# Altium integrated library STMicroelectronics STM32W.IntLib: 20 symbols (part 2 of 2)
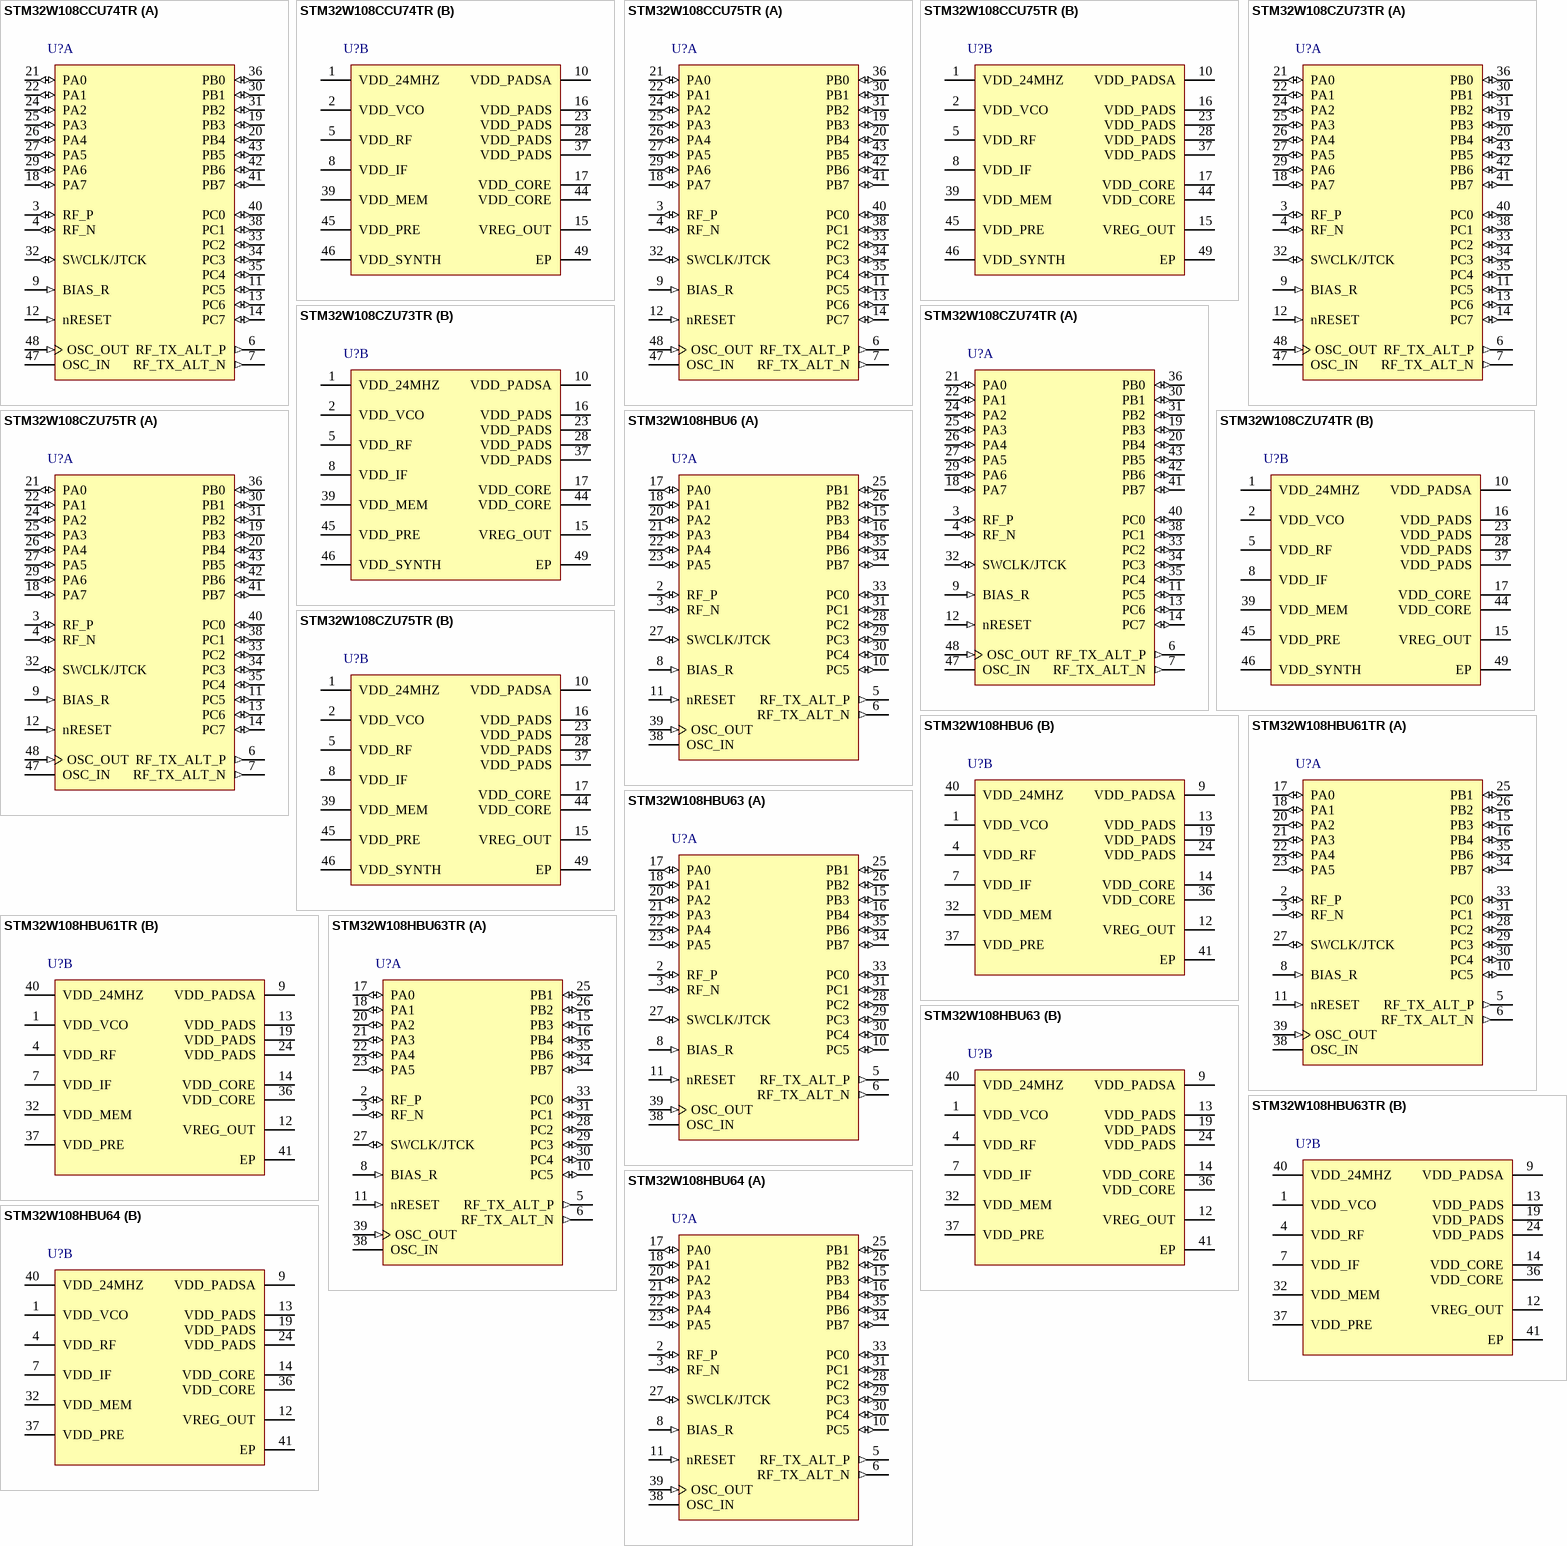
[diagram p3: symbols STM32W108CCU74TR to STM32W108HBU64]

## STM32W108CZU74TR
designator U?
ARM Cortex-M3 32-bit MCU, 192 KB Flash, 12 KB Internal RAM, 24 I/Os, 48-pin UFQFPN, -40 to 105 degC, Tape and Reel; PartNumber: STM32W108CZU74TR; A/D Converter: 1x12-bit (6 Channel); FLASH Size (Prog) (kB): 192; I/Os (High Current): 24; Internal RAM Size (kB): 12; Supply Voltage(Vcc) min (V): 2.1; DatasheetVersion: Rev. 14; PackageVersion: Rev. 1, 04/2013; PackageReference: UFQFPN48; PackageDescription: 48-Pin Ultra Thin Fine Pitch Quad Flat No-Lead, 7 x 7 x 0.6 mm Body, 0.5 mm Pitch, Exposed Pad; Supplier 1: Digi-Key; Supplier Part Number 1: 497-12997-2-ND; Supplier 2: Digi-Key; Supplier Part Number 2: 497-12997-1-ND; Supplier 3: Digi-Key; Supplier Part Number 3: 497-12997-6-ND; Supplier 4: Mouser; Supplier Part Number 4: 511-STM32W108CZU74TR; Core: ARM Cortex-M3; Operating Frequency(F) (Processor speed) (MHz): 24; Packing: Tape and Reel; Mounting Technology: Surface Mount; ComponentLink1Description: Manufacturer URL; ComponentLink1URL: http://www.st.com/web/en/home.html; ComponentLink2Description: Datasheet; ComponentLink2URL: http://www.st.com/st-web-ui/static/active/en/resource/technical/document/datasheet/CD00248316.pdf; ComponentLink3Description: Package Specification; ComponentLink3URL: http://www.st.com/st-web-ui/static/active/en/resource/technical/document/data_brief/DM00071938.pdf
footprint STM-UFQFPN48_N (QFN, 48-Leads, Body 7.1x7.1mm, Pitch 0.5mm, Thermal Pad 5.6x5.6mm, IPC Medium Density)
footprint STM-UFQFPN48_L (QFN, 48-Leads, Body 7.1x7.1mm, Pitch 0.5mm, Thermal Pad 5.6x5.6mm, IPC High Density)
footprint STM-UFQFPN48_M (QFN, 48-Leads, Body 7.1x7.1mm, Pitch 0.5mm, Thermal Pad 5.6x5.6mm, IPC Low Density)
part A pins: 3 RF_P (io) "Differential (with RF_N) receiver input/transmitter output", 4 RF_N (io) "Differential (with RF_P) receiver input/transmitter output", 6 RF_TX_ALT_P (out) "Differential (with RF_TX_ALT_N) transmitter output (optional)", 7 RF_TX_ALT_N (out) "Differential (with RF_TX_ALT_P) transmitter output (optional)", 9 BIAS_R (in) "Bias setting resistor", 11 PC5 (io) "PC5/TX_ACTIVE", 12 nRESET (in) "Active low chip reset (internal pull-up)", 13 PC6 (io) "PC6/OSC32_IN/nTX_ACTIVE", 14 PC7 (io) "PC7/OSC32_OUT/OSC32_EXT", 18 PA7 (io) "PA7/TIM1_CH4/REG_EN", 19 PB3 (io) "PB3/TIM2_CH3/UART_CTS/SC1SCLK", 20 PB4 (io) "PB4/TIM2_CH4/UART_RTS/SC1nSSEL", 21 PA0 (io) "PA0/TIM2_CH1/SC2MOSI", 22 PA1 (io) "PA1/TIM2_CH3/SC2SDA/SC2MISO", 24 PA2 (io) "PA2/TIM2_CH4/SC2SCL/SC2SCLK", 25 PA3 (io) "PA3/SC2nSSEL/TRACECLK/TIM2_CH2", 26 PA4 (io) "PA4/ADC4/PTI_EN/TRACEDATA2", 27 PA5 (io) "PA5/ADC5/PTI_DATA/nBOOTMODE/TRACEDATA3", 29 PA6 (io) "PA6/TIM1_CH3", 30 PB1 (io) "PB1/SC1MISO/SC1MOSI/SC1SDA/SC1TXD/TIM2_CH1", 31 PB2 (io) "PB2/SC1MISO/SC1MOSI/SC1SCL/SC1RXD/TIM2_CH2", 32 SWCLK/JTCK (io), 33 PC2 (io) "PC2/JTDO/SWO", 34 PC3 (io) "PC3/JTDI", 35 PC4 (io) "PC4/JTMS/SWDIO", 36 PB0 (io) "PB0/VREF/IRQA/TRACECLK/TIM1CLK/TIM2MSK", 38 PC1 (io) "PC1/ADC3/SWO/TRACEDATA0", 40 PC0 (io) "PC0/JRST/IRQD/TRACEDATA1", 41 PB7 (io) "PB7/ADC2/IRQC/TIM1_CH2", 42 PB6 (io) "PB6/ADC1/IRQB/TIM1_CH1", 43 PB5 (io) "PB5/ADC0/TIM2CLK/TIM1MSK", 47 OSC_IN "24 MHz HSE OSC or left open when using external clock input on OSC_OUT", 48 OSC_OUT (in) "24 MHz HSE OSC or external clock input"
part B pins: 1 VDD_24MHZ (power) "1.8 V high-frequency oscillator supply", 2 VDD_VCO (power) "1.8 V VCO supply", 5 VDD_RF (power) "1.8 V RF supply (LNA and PA)", 8 VDD_IF (power) "1.8 V IF supply (mixers and filters)", 10 VDD_PADSA (power) "Analog pad supply(1.8 V)", 15 VREG_OUT (power) "Regulator output (1.8 V while awake,0 V during deep sleep)", 16 VDD_PADS (power) "Pads supply (2.1-3.6 V)", 17 VDD_CORE (power) "1.25 V digital core supply decoupling", 23 VDD_PADS (power) "Pads supply(2.1-3.6 V)", 28 VDD_PADS (power) "Pads supply (2.1-3.6 V)", 37 VDD_PADS (power) "Pads supply (2.1to3.6 V).", 39 VDD_MEM (power) "1.8 V supply (Flash, RAM)", 44 VDD_CORE (power) "1.25 V digital core supply decoupling", 45 VDD_PRE (power) "1.8 V prescaler supply", 46 VDD_SYNTH (power) "1.8 V synthesizer supply", 49 EP (power) "Ground supply pad in the bottom center of the package."

## STM32W108CZU75TR
designator U?
ARM Cortex-M3 32-bit MCU, 192 KB Flash, 12 KB Internal RAM, 24 I/Os, 48-pin UFQFPN, -40 to 105 degC, Tape and Reel; PartNumber: STM32W108CZU75TR; A/D Converter: 1x12-bit (6 Channel); FLASH Size (Prog) (kB): 192; I/Os (High Current): 24; Internal RAM Size (kB): 12; Supply Voltage(Vcc) min (V): 2.1; DatasheetVersion: Rev. 14; PackageVersion: Rev. 1, 04/2013; PackageReference: UFQFPN48; PackageDescription: 48-Pin Ultra Thin Fine Pitch Quad Flat No-Lead, 7 x 7 x 0.6 mm Body, 0.5 mm Pitch, Exposed Pad; Supplier 1: Mouser; Supplier Part Number 1: 511-STM32W108CZU75TR; Core: ARM Cortex-M3; Operating Frequency(F) (Processor speed) (MHz): 24; Packing: Tape and Reel; Mounting Technology: Surface Mount; ComponentLink1Description: Manufacturer URL; ComponentLink1URL: http://www.st.com/web/en/home.html; ComponentLink2Description: Datasheet; ComponentLink2URL: http://www.st.com/st-web-ui/static/active/en/resource/technical/document/datasheet/CD00248316.pdf; ComponentLink3Description: Package Specification; ComponentLink3URL: http://www.st.com/st-web-ui/static/active/en/resource/technical/document/data_brief/DM00071938.pdf
footprint STM-UFQFPN48_N (QFN, 48-Leads, Body 7.1x7.1mm, Pitch 0.5mm, Thermal Pad 5.6x5.6mm, IPC Medium Density)
footprint STM-UFQFPN48_L (QFN, 48-Leads, Body 7.1x7.1mm, Pitch 0.5mm, Thermal Pad 5.6x5.6mm, IPC High Density)
footprint STM-UFQFPN48_M (QFN, 48-Leads, Body 7.1x7.1mm, Pitch 0.5mm, Thermal Pad 5.6x5.6mm, IPC Low Density)
part A pins: 3 RF_P (io) "Differential (with RF_N) receiver input/transmitter output", 4 RF_N (io) "Differential (with RF_P) receiver input/transmitter output", 6 RF_TX_ALT_P (out) "Differential (with RF_TX_ALT_N) transmitter output (optional)", 7 RF_TX_ALT_N (out) "Differential (with RF_TX_ALT_P) transmitter output (optional)", 9 BIAS_R (in) "Bias setting resistor", 11 PC5 (io) "PC5/TX_ACTIVE", 12 nRESET (in) "Active low chip reset (internal pull-up)", 13 PC6 (io) "PC6/OSC32_IN/nTX_ACTIVE", 14 PC7 (io) "PC7/OSC32_OUT/OSC32_EXT", 18 PA7 (io) "PA7/TIM1_CH4/REG_EN", 19 PB3 (io) "PB3/TIM2_CH3/UART_CTS/SC1SCLK", 20 PB4 (io) "PB4/TIM2_CH4/UART_RTS/SC1nSSEL", 21 PA0 (io) "PA0/TIM2_CH1/SC2MOSI", 22 PA1 (io) "PA1/TIM2_CH3/SC2SDA/SC2MISO", 24 PA2 (io) "PA2/TIM2_CH4/SC2SCL/SC2SCLK", 25 PA3 (io) "PA3/SC2nSSEL/TRACECLK/TIM2_CH2", 26 PA4 (io) "PA4/ADC4/PTI_EN/TRACEDATA2", 27 PA5 (io) "PA5/ADC5/PTI_DATA/nBOOTMODE/TRACEDATA3", 29 PA6 (io) "PA6/TIM1_CH3", 30 PB1 (io) "PB1/SC1MISO/SC1MOSI/SC1SDA/SC1TXD/TIM2_CH1", 31 PB2 (io) "PB2/SC1MISO/SC1MOSI/SC1SCL/SC1RXD/TIM2_CH2", 32 SWCLK/JTCK (io), 33 PC2 (io) "PC2/JTDO/SWO", 34 PC3 (io) "PC3/JTDI", 35 PC4 (io) "PC4/JTMS/SWDIO", 36 PB0 (io) "PB0/VREF/IRQA/TRACECLK/TIM1CLK/TIM2MSK", 38 PC1 (io) "PC1/ADC3/SWO/TRACEDATA0", 40 PC0 (io) "PC0/JRST/IRQD/TRACEDATA1", 41 PB7 (io) "PB7/ADC2/IRQC/TIM1_CH2", 42 PB6 (io) "PB6/ADC1/IRQB/TIM1_CH1", 43 PB5 (io) "PB5/ADC0/TIM2CLK/TIM1MSK", 47 OSC_IN "24 MHz HSE OSC or left open when using external clock input on OSC_OUT", 48 OSC_OUT (in) "24 MHz HSE OSC or external clock input"
part B pins: 1 VDD_24MHZ (power) "1.8 V high-frequency oscillator supply", 2 VDD_VCO (power) "1.8 V VCO supply", 5 VDD_RF (power) "1.8 V RF supply (LNA and PA)", 8 VDD_IF (power) "1.8 V IF supply (mixers and filters)", 10 VDD_PADSA (power) "Analog pad supply(1.8 V)", 15 VREG_OUT (power) "Regulator output (1.8 V while awake,0 V during deep sleep)", 16 VDD_PADS (power) "Pads supply (2.1-3.6 V)", 17 VDD_CORE (power) "1.25 V digital core supply decoupling", 23 VDD_PADS (power) "Pads supply(2.1-3.6 V)", 28 VDD_PADS (power) "Pads supply (2.1-3.6 V)", 37 VDD_PADS (power) "Pads supply (2.1to3.6 V).", 39 VDD_MEM (power) "1.8 V supply (Flash, RAM)", 44 VDD_CORE (power) "1.25 V digital core supply decoupling", 45 VDD_PRE (power) "1.8 V prescaler supply", 46 VDD_SYNTH (power) "1.8 V synthesizer supply", 49 EP (power) "Ground supply pad in the bottom center of the package."

## STM32W108HBU6
designator U?
ARM Cortex-M3 32-bit MCU, 128 KB Flash, 8 KB Internal RAM, 18 I/Os, 40-pin VFQFPN, -40 to 85 degC, Tray; PartNumber: STM32W108HBU6; A/D Converter: 1x12-bit (6 Channel); FLASH Size (Prog) (kB): 128; I/Os (High Current): 18; Internal RAM Size (kB): 8; Operating Frequency(F) (Processor speed) (MHz): 24; Supply Voltage(Vcc) min (V): 2.1; DatasheetVersion: Rev. 14; PackageVersion: Rev. 14, 09/2012; PackageReference: VFQFPN40; PackageDescription: 40-Pin Quad Flat No-Lead, 6 x 6 x 1.0 mm Body, 0.5 mm Pitch, Exposed Pad; Supplier 1: Mouser; Supplier Part Number 1: N/A; Core: ARM Cortex-M3; Packing: Tray; Mounting Technology: Surface Mount; ComponentLink1Description: Manufacturer URL; ComponentLink1URL: http://www.st.com/web/en/home.html; ComponentLink2Description: Datasheet; ComponentLink2URL: http://www.st.com/st-web-ui/static/active/en/resource/technical/document/datasheet/CD00248316.pdf; ComponentLink3Description: Package Specification; ComponentLink3URL: http://www.st.com/st-web-ui/static/active/en/resource/technical/document/datasheet/CD00248316.pdf
footprint STM-VFQFPN40_N (QFN, 40-Leads, Body 6.1x6.1mm, Pitch 0.5mm, Thermal Pad 4.6x4.6mm, IPC Medium Density)
footprint STM-VFQFPN40_L (QFN, 40-Leads, Body 6.1x6.1mm, Pitch 0.5mm, Thermal Pad 4.6x4.6mm, IPC High Density)
footprint STM-VFQFPN40_M (QFN, 40-Leads, Body 6.1x6.1mm, Pitch 0.5mm, Thermal Pad 4.6x4.6mm, IPC Low Density)
part A pins: 2 RF_P (io) "Differential (with RF_N) receiver input/transmitter output", 3 RF_N (io) "Differential (with RF_P) receiver input/transmitter output", 5 RF_TX_ALT_P (out) "Differential (with RF_TX_ALT_N) transmitter output (optional)", 6 RF_TX_ALT_N (out) "Differential (with RF_TX_ALT_P) transmitter output (optional)", 8 BIAS_R (in) "Bias setting resistor", 10 PC5 (io) "PC5/TX_ACTIVE", 11 nRESET (in) "Active low chip reset (internal pull-up)", 15 PB3 (io) "PB3/TIM2_CH3/UART_CTS/SC1SCLK", 16 PB4 (io) "PB4/TIM2_CH4/UART_RTS/SC1nSSEL", 17 PA0 (io) "PA0/TIM2_CH1/SC2MOSI", 18 PA1 (io) "PA1/TIM2_CH3/SC2SDA/SC2MISO", 20 PA2 (io) "PA2/TIM2_CH4/SC2SCL/SC2SCLK", 21 PA3 (io) "PA3/SC2nSSEL/TRACECLK/TIM2_CH2", 22 PA4 (io) "PA4/ADC4/PTI_EN/TRACEDATA2", 23 PA5 (io) "PA5/ADC5/PTI_DATA/nBOOTMODE/TRACEDATA3", 25 PB1 (io) "PB1/SC1MISO/SC1MOSI/SC1SDA/SC1TXD/TIM2_CH1", 26 PB2 (io) "PB2/SC1MISO/SC1MOSI/SC1SCL/SC1RXD/TIM2_CH2", 27 SWCLK/JTCK (io), 28 PC2 (io) "PC2/JTDO/SWO", 29 PC3 (io) "PC3/JTDI", 30 PC4 (io) "PC4/JTMS/SWDIO", 31 PC1 (io) "PC1/ADC3/SWO/TRACEDATA0", 33 PC0 (io) "PC0/JRST/IRQD/TRACEDATA1", 34 PB7 (io) "PB7/ADC2/IRQC/TIM1_CH2", 35 PB6 (io) "PB6/ADC1/IRQB/TIM1_CH1", 38 OSC_IN "24 MHz HSE OSC or left open when using external clock input on OSC_OUT", 39 OSC_OUT (in) "24 MHz HSE OSC or external clock input"
part B pins: 1 VDD_VCO (power) "1.8V VCO supply", 4 VDD_RF (power) "1.8V RF supply (LNA and PA)", 7 VDD_IF (power) "1.8V IF supply (mixers and filters)", 9 VDD_PADSA (power) "Analog pad supply (1.8V)", 12 VREG_OUT (power) "Regulator output (1.8 V while awake, 0 V during deep sleep)", 13 VDD_PADS (power) "Pads supply (2.1-3.6 V)", 14 VDD_CORE (power) "1.25 V digital core supply decoupling", 19 VDD_PADS (power) "Pads supply (2.1-3.6V)", 24 VDD_PADS (power) "Pads supply (2.1-3.6 V)", 32 VDD_MEM (power) "1.8 V supply (Flash, RAM)", 36 VDD_CORE (power) "1.25 V digital core supply decoupling", 37 VDD_PRE (power) "1.8 V prescaler supply", 40 VDD_24MHZ (power) "1.8V high-frequency oscillator supply", 41 EP (power) "Ground supply pad in the bottom center of the package."

## STM32W108HBU61TR
designator U?
ARM Cortex-M3 32-bit MCU, 128 KB Flash, 8 KB Internal RAM, 18 I/Os, 40-pin VFQFPN, -40 to 85 degC, Tape and Reel; PartNumber: STM32W108HBU61TR; A/D Converter: 1x12-bit (6 Channel); FLASH Size (Prog) (kB): 128; I/Os (High Current): 18; Internal RAM Size (kB): 8; Operating Frequency(F) (Processor speed) (MHz): 24; Supply Voltage(Vcc) min (V): 2.1; DatasheetVersion: Rev. 14; PackageVersion: Rev. 14, 09/2012; PackageReference: VFQFPN40; PackageDescription: 40-Pin Quad Flat No-Lead, 6 x 6 x 1.0 mm Body, 0.5 mm Pitch, Exposed Pad; Supplier 1: Digi-Key; Supplier Part Number 1: 497-11412-2-ND; Supplier 2: Digi-Key; Supplier Part Number 2: 497-11412-1-ND; Supplier 3: Digi-Key; Supplier Part Number 3: 497-11412-6-ND; Supplier 4: Mouser; Supplier Part Number 4: 511-STM32W108HBU61TR; Core: ARM Cortex-M3; Packing: Tape and Reel; Mounting Technology: Surface Mount; ComponentLink1Description: Manufacturer URL; ComponentLink1URL: http://www.st.com/web/en/home.html; ComponentLink2Description: Datasheet; ComponentLink2URL: http://www.st.com/st-web-ui/static/active/en/resource/technical/document/datasheet/CD00248316.pdf; ComponentLink3Description: Package Specification; ComponentLink3URL: http://www.st.com/st-web-ui/static/active/en/resource/technical/document/datasheet/CD00248316.pdf
footprint STM-VFQFPN40_N (QFN, 40-Leads, Body 6.1x6.1mm, Pitch 0.5mm, Thermal Pad 4.6x4.6mm, IPC Medium Density)
footprint STM-VFQFPN40_L (QFN, 40-Leads, Body 6.1x6.1mm, Pitch 0.5mm, Thermal Pad 4.6x4.6mm, IPC High Density)
footprint STM-VFQFPN40_M (QFN, 40-Leads, Body 6.1x6.1mm, Pitch 0.5mm, Thermal Pad 4.6x4.6mm, IPC Low Density)
part A pins: 2 RF_P (io) "Differential (with RF_N) receiver input/transmitter output", 3 RF_N (io) "Differential (with RF_P) receiver input/transmitter output", 5 RF_TX_ALT_P (out) "Differential (with RF_TX_ALT_N) transmitter output (optional)", 6 RF_TX_ALT_N (out) "Differential (with RF_TX_ALT_P) transmitter output (optional)", 8 BIAS_R (in) "Bias setting resistor", 10 PC5 (io) "PC5/TX_ACTIVE", 11 nRESET (in) "Active low chip reset (internal pull-up)", 15 PB3 (io) "PB3/TIM2_CH3/UART_CTS/SC1SCLK", 16 PB4 (io) "PB4/TIM2_CH4/UART_RTS/SC1nSSEL", 17 PA0 (io) "PA0/TIM2_CH1/SC2MOSI", 18 PA1 (io) "PA1/TIM2_CH3/SC2SDA/SC2MISO", 20 PA2 (io) "PA2/TIM2_CH4/SC2SCL/SC2SCLK", 21 PA3 (io) "PA3/SC2nSSEL/TRACECLK/TIM2_CH2", 22 PA4 (io) "PA4/ADC4/PTI_EN/TRACEDATA2", 23 PA5 (io) "PA5/ADC5/PTI_DATA/nBOOTMODE/TRACEDATA3", 25 PB1 (io) "PB1/SC1MISO/SC1MOSI/SC1SDA/SC1TXD/TIM2_CH1", 26 PB2 (io) "PB2/SC1MISO/SC1MOSI/SC1SCL/SC1RXD/TIM2_CH2", 27 SWCLK/JTCK (io), 28 PC2 (io) "PC2/JTDO/SWO", 29 PC3 (io) "PC3/JTDI", 30 PC4 (io) "PC4/JTMS/SWDIO", 31 PC1 (io) "PC1/ADC3/SWO/TRACEDATA0", 33 PC0 (io) "PC0/JRST/IRQD/TRACEDATA1", 34 PB7 (io) "PB7/ADC2/IRQC/TIM1_CH2", 35 PB6 (io) "PB6/ADC1/IRQB/TIM1_CH1", 38 OSC_IN "24 MHz HSE OSC or left open when using external clock input on OSC_OUT", 39 OSC_OUT (in) "24 MHz HSE OSC or external clock input"
part B pins: 1 VDD_VCO (power) "1.8V VCO supply", 4 VDD_RF (power) "1.8V RF supply (LNA and PA)", 7 VDD_IF (power) "1.8V IF supply (mixers and filters)", 9 VDD_PADSA (power) "Analog pad supply (1.8V)", 12 VREG_OUT (power) "Regulator output (1.8 V while awake, 0 V during deep sleep)", 13 VDD_PADS (power) "Pads supply (2.1-3.6 V)", 14 VDD_CORE (power) "1.25 V digital core supply decoupling", 19 VDD_PADS (power) "Pads supply (2.1-3.6V)", 24 VDD_PADS (power) "Pads supply (2.1-3.6 V)", 32 VDD_MEM (power) "1.8 V supply (Flash, RAM)", 36 VDD_CORE (power) "1.25 V digital core supply decoupling", 37 VDD_PRE (power) "1.8 V prescaler supply", 40 VDD_24MHZ (power) "1.8V high-frequency oscillator supply", 41 EP (power) "Ground supply pad in the bottom center of the package."

## STM32W108HBU63
designator U?
ARM Cortex-M3 32-bit MCU, 128 KB Flash, 8 KB Internal RAM, 18 I/Os, 40-pin VFQFPN, -40 to 85 degC, Tray; PartNumber: STM32W108HBU63; A/D Converter: 1x12-bit (6 Channel); FLASH Size (Prog) (kB): 128; I/Os (High Current): 18; Internal RAM Size (kB): 8; Operating Frequency(F) (Processor speed) (MHz): 24; Supply Voltage(Vcc) min (V): 2.1; DatasheetVersion: Rev. 14; PackageVersion: Rev. 14, 09/2012; PackageReference: VFQFPN40; PackageDescription: 40-Pin Quad Flat No-Lead, 6 x 6 x 1.0 mm Body, 0.5 mm Pitch, Exposed Pad; Supplier 1: Mouser; Supplier Part Number 1: N/A; Core: ARM Cortex-M3; Packing: Tray; Mounting Technology: Surface Mount; ComponentLink1Description: Manufacturer URL; ComponentLink1URL: http://www.st.com/web/en/home.html; ComponentLink2Description: Datasheet; ComponentLink2URL: http://www.st.com/st-web-ui/static/active/en/resource/technical/document/datasheet/CD00248316.pdf; ComponentLink3Description: Package Specification; ComponentLink3URL: http://www.st.com/st-web-ui/static/active/en/resource/technical/document/datasheet/CD00248316.pdf
footprint STM-VFQFPN40_N (QFN, 40-Leads, Body 6.1x6.1mm, Pitch 0.5mm, Thermal Pad 4.6x4.6mm, IPC Medium Density)
footprint STM-VFQFPN40_L (QFN, 40-Leads, Body 6.1x6.1mm, Pitch 0.5mm, Thermal Pad 4.6x4.6mm, IPC High Density)
footprint STM-VFQFPN40_M (QFN, 40-Leads, Body 6.1x6.1mm, Pitch 0.5mm, Thermal Pad 4.6x4.6mm, IPC Low Density)
part A pins: 2 RF_P (io) "Differential (with RF_N) receiver input/transmitter output", 3 RF_N (io) "Differential (with RF_P) receiver input/transmitter output", 5 RF_TX_ALT_P (out) "Differential (with RF_TX_ALT_N) transmitter output (optional)", 6 RF_TX_ALT_N (out) "Differential (with RF_TX_ALT_P) transmitter output (optional)", 8 BIAS_R (in) "Bias setting resistor", 10 PC5 (io) "PC5/TX_ACTIVE", 11 nRESET (in) "Active low chip reset (internal pull-up)", 15 PB3 (io) "PB3/TIM2_CH3/UART_CTS/SC1SCLK", 16 PB4 (io) "PB4/TIM2_CH4/UART_RTS/SC1nSSEL", 17 PA0 (io) "PA0/TIM2_CH1/SC2MOSI", 18 PA1 (io) "PA1/TIM2_CH3/SC2SDA/SC2MISO", 20 PA2 (io) "PA2/TIM2_CH4/SC2SCL/SC2SCLK", 21 PA3 (io) "PA3/SC2nSSEL/TRACECLK/TIM2_CH2", 22 PA4 (io) "PA4/ADC4/PTI_EN/TRACEDATA2", 23 PA5 (io) "PA5/ADC5/PTI_DATA/nBOOTMODE/TRACEDATA3", 25 PB1 (io) "PB1/SC1MISO/SC1MOSI/SC1SDA/SC1TXD/TIM2_CH1", 26 PB2 (io) "PB2/SC1MISO/SC1MOSI/SC1SCL/SC1RXD/TIM2_CH2", 27 SWCLK/JTCK (io), 28 PC2 (io) "PC2/JTDO/SWO", 29 PC3 (io) "PC3/JTDI", 30 PC4 (io) "PC4/JTMS/SWDIO", 31 PC1 (io) "PC1/ADC3/SWO/TRACEDATA0", 33 PC0 (io) "PC0/JRST/IRQD/TRACEDATA1", 34 PB7 (io) "PB7/ADC2/IRQC/TIM1_CH2", 35 PB6 (io) "PB6/ADC1/IRQB/TIM1_CH1", 38 OSC_IN "24 MHz HSE OSC or left open when using external clock input on OSC_OUT", 39 OSC_OUT (in) "24 MHz HSE OSC or external clock input"
part B pins: 1 VDD_VCO (power) "1.8V VCO supply", 4 VDD_RF (power) "1.8V RF supply (LNA and PA)", 7 VDD_IF (power) "1.8V IF supply (mixers and filters)", 9 VDD_PADSA (power) "Analog pad supply (1.8V)", 12 VREG_OUT (power) "Regulator output (1.8 V while awake, 0 V during deep sleep)", 13 VDD_PADS (power) "Pads supply (2.1-3.6 V)", 14 VDD_CORE (power) "1.25 V digital core supply decoupling", 19 VDD_PADS (power) "Pads supply (2.1-3.6V)", 24 VDD_PADS (power) "Pads supply (2.1-3.6 V)", 32 VDD_MEM (power) "1.8 V supply (Flash, RAM)", 36 VDD_CORE (power) "1.25 V digital core supply decoupling", 37 VDD_PRE (power) "1.8 V prescaler supply", 40 VDD_24MHZ (power) "1.8V high-frequency oscillator supply", 41 EP (power) "Ground supply pad in the bottom center of the package."

## STM32W108HBU63TR
designator U?
ARM Cortex-M3 32-bit MCU, 128 KB Flash, 8 KB Internal RAM, 18 I/Os, 40-pin VFQFPN, -40 to 85 degC, Tape and Reel; PartNumber: STM32W108HBU63TR; A/D Converter: 1x12-bit (6 Channel); FLASH Size (Prog) (kB): 128; I/Os (High Current): 18; Internal RAM Size (kB): 8; Operating Frequency(F) (Processor speed) (MHz): 24; Supply Voltage(Vcc) min (V): 2.1; DatasheetVersion: Rev. 14; PackageVersion: Rev. 14, 09/2012; PackageReference: VFQFPN40; PackageDescription: 40-Pin Quad Flat No-Lead, 6 x 6 x 1.0 mm Body, 0.5 mm Pitch, Exposed Pad; Supplier 1: Digi-Key; Supplier Part Number 1: 497-11413-2-ND; Supplier 2: Digi-Key; Supplier Part Number 2: 497-11413-1-ND; Supplier 3: Digi-Key; Supplier Part Number 3: 497-11413-6-ND; Supplier 4: Mouser; Supplier Part Number 4: 511-STM32W108HBU63TR; Core: ARM Cortex-M3; Packing: Tape and Reel; Mounting Technology: Surface Mount; ComponentLink1Description: Manufacturer URL; ComponentLink1URL: http://www.st.com/web/en/home.html; ComponentLink2Description: Datasheet; ComponentLink2URL: http://www.st.com/st-web-ui/static/active/en/resource/technical/document/datasheet/CD00248316.pdf; ComponentLink3Description: Package Specification; ComponentLink3URL: http://www.st.com/st-web-ui/static/active/en/resource/technical/document/datasheet/CD00248316.pdf
footprint STM-VFQFPN40_N (QFN, 40-Leads, Body 6.1x6.1mm, Pitch 0.5mm, Thermal Pad 4.6x4.6mm, IPC Medium Density)
footprint STM-VFQFPN40_L (QFN, 40-Leads, Body 6.1x6.1mm, Pitch 0.5mm, Thermal Pad 4.6x4.6mm, IPC High Density)
footprint STM-VFQFPN40_M (QFN, 40-Leads, Body 6.1x6.1mm, Pitch 0.5mm, Thermal Pad 4.6x4.6mm, IPC Low Density)
part A pins: 2 RF_P (io) "Differential (with RF_N) receiver input/transmitter output", 3 RF_N (io) "Differential (with RF_P) receiver input/transmitter output", 5 RF_TX_ALT_P (out) "Differential (with RF_TX_ALT_N) transmitter output (optional)", 6 RF_TX_ALT_N (out) "Differential (with RF_TX_ALT_P) transmitter output (optional)", 8 BIAS_R (in) "Bias setting resistor", 10 PC5 (io) "PC5/TX_ACTIVE", 11 nRESET (in) "Active low chip reset (internal pull-up)", 15 PB3 (io) "PB3/TIM2_CH3/UART_CTS/SC1SCLK", 16 PB4 (io) "PB4/TIM2_CH4/UART_RTS/SC1nSSEL", 17 PA0 (io) "PA0/TIM2_CH1/SC2MOSI", 18 PA1 (io) "PA1/TIM2_CH3/SC2SDA/SC2MISO", 20 PA2 (io) "PA2/TIM2_CH4/SC2SCL/SC2SCLK", 21 PA3 (io) "PA3/SC2nSSEL/TRACECLK/TIM2_CH2", 22 PA4 (io) "PA4/ADC4/PTI_EN/TRACEDATA2", 23 PA5 (io) "PA5/ADC5/PTI_DATA/nBOOTMODE/TRACEDATA3", 25 PB1 (io) "PB1/SC1MISO/SC1MOSI/SC1SDA/SC1TXD/TIM2_CH1", 26 PB2 (io) "PB2/SC1MISO/SC1MOSI/SC1SCL/SC1RXD/TIM2_CH2", 27 SWCLK/JTCK (io), 28 PC2 (io) "PC2/JTDO/SWO", 29 PC3 (io) "PC3/JTDI", 30 PC4 (io) "PC4/JTMS/SWDIO", 31 PC1 (io) "PC1/ADC3/SWO/TRACEDATA0", 33 PC0 (io) "PC0/JRST/IRQD/TRACEDATA1", 34 PB7 (io) "PB7/ADC2/IRQC/TIM1_CH2", 35 PB6 (io) "PB6/ADC1/IRQB/TIM1_CH1", 38 OSC_IN "24 MHz HSE OSC or left open when using external clock input on OSC_OUT", 39 OSC_OUT (in) "24 MHz HSE OSC or external clock input"
part B pins: 1 VDD_VCO (power) "1.8V VCO supply", 4 VDD_RF (power) "1.8V RF supply (LNA and PA)", 7 VDD_IF (power) "1.8V IF supply (mixers and filters)", 9 VDD_PADSA (power) "Analog pad supply (1.8V)", 12 VREG_OUT (power) "Regulator output (1.8 V while awake, 0 V during deep sleep)", 13 VDD_PADS (power) "Pads supply (2.1-3.6 V)", 14 VDD_CORE (power) "1.25 V digital core supply decoupling", 19 VDD_PADS (power) "Pads supply (2.1-3.6V)", 24 VDD_PADS (power) "Pads supply (2.1-3.6 V)", 32 VDD_MEM (power) "1.8 V supply (Flash, RAM)", 36 VDD_CORE (power) "1.25 V digital core supply decoupling", 37 VDD_PRE (power) "1.8 V prescaler supply", 40 VDD_24MHZ (power) "1.8V high-frequency oscillator supply", 41 EP (power) "Ground supply pad in the bottom center of the package."

## STM32W108HBU64
designator U?
ARM Cortex-M3 32-bit MCU, 128 KB Flash, 8 KB Internal RAM, 18 I/Os, 40-pin VFQFPN, -40 to 85 degC, Tray; PartNumber: STM32W108HBU64; A/D Converter: 1x12-bit (6 Channel); FLASH Size (Prog) (kB): 128; I/Os (High Current): 18; Internal RAM Size (kB): 8; Operating Frequency(F) (Processor speed) (MHz): 24; Supply Voltage(Vcc) min (V): 2.1; DatasheetVersion: Rev. 14; PackageVersion: Rev. 14, 09/2012; PackageReference: VFQFPN40; PackageDescription: 40-Pin Quad Flat No-Lead, 6 x 6 x 1.0 mm Body, 0.5 mm Pitch, Exposed Pad; Supplier 1: Mouser; Supplier Part Number 1: N/A; Core: ARM Cortex-M3; Packing: Tray; Mounting Technology: Surface Mount; ComponentLink1Description: Manufacturer URL; ComponentLink1URL: http://www.st.com/web/en/home.html; ComponentLink2Description: Datasheet; ComponentLink2URL: http://www.st.com/st-web-ui/static/active/en/resource/technical/document/datasheet/CD00248316.pdf; ComponentLink3Description: Package Specification; ComponentLink3URL: http://www.st.com/st-web-ui/static/active/en/resource/technical/document/datasheet/CD00248316.pdf
footprint STM-VFQFPN40_N (QFN, 40-Leads, Body 6.1x6.1mm, Pitch 0.5mm, Thermal Pad 4.6x4.6mm, IPC Medium Density)
footprint STM-VFQFPN40_L (QFN, 40-Leads, Body 6.1x6.1mm, Pitch 0.5mm, Thermal Pad 4.6x4.6mm, IPC High Density)
footprint STM-VFQFPN40_M (QFN, 40-Leads, Body 6.1x6.1mm, Pitch 0.5mm, Thermal Pad 4.6x4.6mm, IPC Low Density)
part A pins: 2 RF_P (io) "Differential (with RF_N) receiver input/transmitter output", 3 RF_N (io) "Differential (with RF_P) receiver input/transmitter output", 5 RF_TX_ALT_P (out) "Differential (with RF_TX_ALT_N) transmitter output (optional)", 6 RF_TX_ALT_N (out) "Differential (with RF_TX_ALT_P) transmitter output (optional)", 8 BIAS_R (in) "Bias setting resistor", 10 PC5 (io) "PC5/TX_ACTIVE", 11 nRESET (in) "Active low chip reset (internal pull-up)", 15 PB3 (io) "PB3/TIM2_CH3/UART_CTS/SC1SCLK", 16 PB4 (io) "PB4/TIM2_CH4/UART_RTS/SC1nSSEL", 17 PA0 (io) "PA0/TIM2_CH1/SC2MOSI", 18 PA1 (io) "PA1/TIM2_CH3/SC2SDA/SC2MISO", 20 PA2 (io) "PA2/TIM2_CH4/SC2SCL/SC2SCLK", 21 PA3 (io) "PA3/SC2nSSEL/TRACECLK/TIM2_CH2", 22 PA4 (io) "PA4/ADC4/PTI_EN/TRACEDATA2", 23 PA5 (io) "PA5/ADC5/PTI_DATA/nBOOTMODE/TRACEDATA3", 25 PB1 (io) "PB1/SC1MISO/SC1MOSI/SC1SDA/SC1TXD/TIM2_CH1", 26 PB2 (io) "PB2/SC1MISO/SC1MOSI/SC1SCL/SC1RXD/TIM2_CH2", 27 SWCLK/JTCK (io), 28 PC2 (io) "PC2/JTDO/SWO", 29 PC3 (io) "PC3/JTDI", 30 PC4 (io) "PC4/JTMS/SWDIO", 31 PC1 (io) "PC1/ADC3/SWO/TRACEDATA0", 33 PC0 (io) "PC0/JRST/IRQD/TRACEDATA1", 34 PB7 (io) "PB7/ADC2/IRQC/TIM1_CH2", 35 PB6 (io) "PB6/ADC1/IRQB/TIM1_CH1", 38 OSC_IN "24 MHz HSE OSC or left open when using external clock input on OSC_OUT", 39 OSC_OUT (in) "24 MHz HSE OSC or external clock input"
part B pins: 1 VDD_VCO (power) "1.8V VCO supply", 4 VDD_RF (power) "1.8V RF supply (LNA and PA)", 7 VDD_IF (power) "1.8V IF supply (mixers and filters)", 9 VDD_PADSA (power) "Analog pad supply (1.8V)", 12 VREG_OUT (power) "Regulator output (1.8 V while awake, 0 V during deep sleep)", 13 VDD_PADS (power) "Pads supply (2.1-3.6 V)", 14 VDD_CORE (power) "1.25 V digital core supply decoupling", 19 VDD_PADS (power) "Pads supply (2.1-3.6V)", 24 VDD_PADS (power) "Pads supply (2.1-3.6 V)", 32 VDD_MEM (power) "1.8 V supply (Flash, RAM)", 36 VDD_CORE (power) "1.25 V digital core supply decoupling", 37 VDD_PRE (power) "1.8 V prescaler supply", 40 VDD_24MHZ (power) "1.8V high-frequency oscillator supply", 41 EP (power) "Ground supply pad in the bottom center of the package."

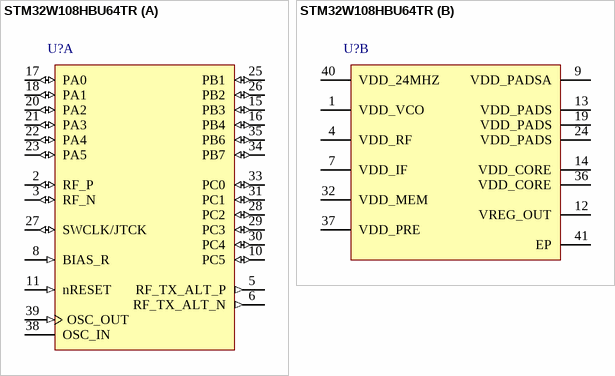
[diagram p2: symbol STM32W108HBU64TR]

## STM32W108HBU64TR
designator U?
ARM Cortex-M3 32-bit MCU, 128 KB Flash, 8 KB Internal RAM, 18 I/Os, 40-pin VFQFPN, -40 to 85 degC, Tape and Reel; PartNumber: STM32W108HBU64TR; A/D Converter: 1x12-bit (6 Channel); FLASH Size (Prog) (kB): 128; I/Os (High Current): 18; Internal RAM Size (kB): 8; Operating Frequency(F) (Processor speed) (MHz): 24; Supply Voltage(Vcc) min (V): 2.1; DatasheetVersion: Rev. 14; PackageVersion: Rev. 14, 09/2012; PackageReference: VFQFPN40; PackageDescription: 40-Pin Quad Flat No-Lead, 6 x 6 x 1.0 mm Body, 0.5 mm Pitch, Exposed Pad; Supplier 1: Digi-Key; Supplier Part Number 1: 497-11414-2-ND; Supplier 2: Digi-Key; Supplier Part Number 2: 497-11414-1-ND; Supplier 3: Digi-Key; Supplier Part Number 3: 497-11414-6-ND; Supplier 4: Newark; Supplier Part Number 4: 47T9391; Supplier 5: Mouser; Supplier Part Number 5: 511-STM32W108HBU64TR; Core: ARM Cortex-M3; Packing: Tape and Reel; Mounting Technology: Surface Mount; ComponentLink1Description: Manufacturer URL; ComponentLink1URL: http://www.st.com/web/en/home.html; ComponentLink2Description: Datasheet; ComponentLink2URL: http://www.st.com/st-web-ui/static/active/en/resource/technical/document/datasheet/CD00248316.pdf; ComponentLink3Description: Package Specification; ComponentLink3URL: http://www.st.com/st-web-ui/static/active/en/resource/technical/document/datasheet/CD00248316.pdf
footprint STM-VFQFPN40_N (QFN, 40-Leads, Body 6.1x6.1mm, Pitch 0.5mm, Thermal Pad 4.6x4.6mm, IPC Medium Density)
footprint STM-VFQFPN40_L (QFN, 40-Leads, Body 6.1x6.1mm, Pitch 0.5mm, Thermal Pad 4.6x4.6mm, IPC High Density)
footprint STM-VFQFPN40_M (QFN, 40-Leads, Body 6.1x6.1mm, Pitch 0.5mm, Thermal Pad 4.6x4.6mm, IPC Low Density)
part A pins: 2 RF_P (io) "Differential (with RF_N) receiver input/transmitter output", 3 RF_N (io) "Differential (with RF_P) receiver input/transmitter output", 5 RF_TX_ALT_P (out) "Differential (with RF_TX_ALT_N) transmitter output (optional)", 6 RF_TX_ALT_N (out) "Differential (with RF_TX_ALT_P) transmitter output (optional)", 8 BIAS_R (in) "Bias setting resistor", 10 PC5 (io) "PC5/TX_ACTIVE", 11 nRESET (in) "Active low chip reset (internal pull-up)", 15 PB3 (io) "PB3/TIM2_CH3/UART_CTS/SC1SCLK", 16 PB4 (io) "PB4/TIM2_CH4/UART_RTS/SC1nSSEL", 17 PA0 (io) "PA0/TIM2_CH1/SC2MOSI", 18 PA1 (io) "PA1/TIM2_CH3/SC2SDA/SC2MISO", 20 PA2 (io) "PA2/TIM2_CH4/SC2SCL/SC2SCLK", 21 PA3 (io) "PA3/SC2nSSEL/TRACECLK/TIM2_CH2", 22 PA4 (io) "PA4/ADC4/PTI_EN/TRACEDATA2", 23 PA5 (io) "PA5/ADC5/PTI_DATA/nBOOTMODE/TRACEDATA3", 25 PB1 (io) "PB1/SC1MISO/SC1MOSI/SC1SDA/SC1TXD/TIM2_CH1", 26 PB2 (io) "PB2/SC1MISO/SC1MOSI/SC1SCL/SC1RXD/TIM2_CH2", 27 SWCLK/JTCK (io), 28 PC2 (io) "PC2/JTDO/SWO", 29 PC3 (io) "PC3/JTDI", 30 PC4 (io) "PC4/JTMS/SWDIO", 31 PC1 (io) "PC1/ADC3/SWO/TRACEDATA0", 33 PC0 (io) "PC0/JRST/IRQD/TRACEDATA1", 34 PB7 (io) "PB7/ADC2/IRQC/TIM1_CH2", 35 PB6 (io) "PB6/ADC1/IRQB/TIM1_CH1", 38 OSC_IN "24 MHz HSE OSC or left open when using external clock input on OSC_OUT", 39 OSC_OUT (in) "24 MHz HSE OSC or external clock input"
part B pins: 1 VDD_VCO (power) "1.8V VCO supply", 4 VDD_RF (power) "1.8V RF supply (LNA and PA)", 7 VDD_IF (power) "1.8V IF supply (mixers and filters)", 9 VDD_PADSA (power) "Analog pad supply (1.8V)", 12 VREG_OUT (power) "Regulator output (1.8 V while awake, 0 V during deep sleep)", 13 VDD_PADS (power) "Pads supply (2.1-3.6 V)", 14 VDD_CORE (power) "1.25 V digital core supply decoupling", 19 VDD_PADS (power) "Pads supply (2.1-3.6V)", 24 VDD_PADS (power) "Pads supply (2.1-3.6 V)", 32 VDD_MEM (power) "1.8 V supply (Flash, RAM)", 36 VDD_CORE (power) "1.25 V digital core supply decoupling", 37 VDD_PRE (power) "1.8 V prescaler supply", 40 VDD_24MHZ (power) "1.8V high-frequency oscillator supply", 41 EP (power) "Ground supply pad in the bottom center of the package."